# Altium footprint library DiodsFootprint.PcbLib: 4 footprints
Each footprint in its own frame and in the unit in brackets; x right, y up, seen from the top. Pads: shape width x height; smd on the part's side, far side on the other; paste and mask are expansions set on the pad; w line width, h text height; cw(c..) or ccw(c..) is an arc to the next point about the centre after c.
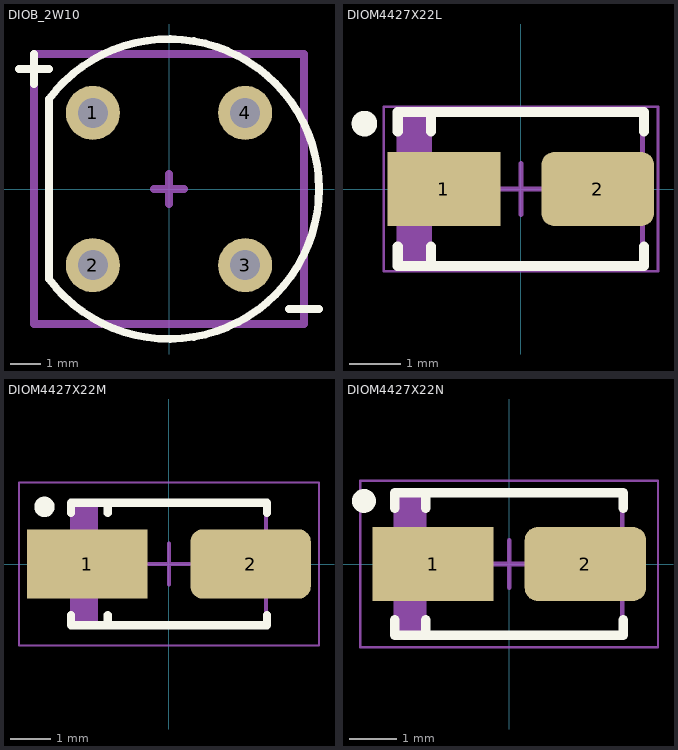
[diagram p0: the footprints below, top view; thin cyan lines are the x and y axes]

## DIOB_2W10 [mm] "2.0A BRIDGE RECTIFIER 700 Vrms"
pads (4):
  round 1.8 hole 1: 1(-2.54,2.54) 2(-2.54,-2.54) 3(2.54,-2.54) 4(2.54,2.54)
Top Overlay:
  lines w0.254: -5,4 -4,4 ; -4.5,3.5 -4.5,4.5 ; 4,-4 5,-4 ; -4,-3 ccw(c0,0) -4,3 -4,-3
Mechanical 15 (Mech15):
  lines w0.254: -0.5,0 0.5,0 ; 0,-0.5 0,0.5 ; -4.5,-4.5 4.5,-4.5 4.5,4.5 -4.5,4.5 -4.5,-4.5
3D body "User Library-Silicon Bridge Rectifiers 2W10.step": height 7.3, standoff -10.7, extent -4.5,-4.5 4.5,4.5

## DIOM4427X22L [mm] "Molded Diode, 2-Leads, Body 4,38x2,73mm, IPC High Density"
height 2.2
pads (2):
  rect 2.2x1.45 smd: 1(-1.5,0)
  rrect35% 2.2x1.45 smd: 2(1.5,0)
Top Overlay:
  circle w0.25: c-3.05,1.275 r0.125
  lines w0.2: -2.4,-1.125 -2.4,-1.5 2.4,-1.5 2.4,-1.125 ; -2.4,1.125 -2.4,1.5 2.4,1.5 2.4,1.125 ; -1.75,-1.5 -1.75,-1.125 ; -1.75,1.125 -1.75,1.5
Mechanical 13:
  rectangle: -2.375,-1.475 -1.736,1.475
  lines w0.1: -2.375,-1.475 2.375,-1.475 2.375,1.475 -2.375,1.475 -2.375,-1.475
Mechanical 15 (Mech15):
  lines w0.05: -2.675,-1.6 2.675,-1.6 2.675,1.6 -2.675,1.6 -2.675,-1.6
  lines w0.1: -0.5,0 0.5,0 ; 0,-0.5 0,0.5
3D body "DIOM4427X22L.step": height 2.2, standoff 0, extent -2.595,-1.475 2.595,1.475

## DIOM4427X22M [mm] "Molded Diode, 2-Leads, Body 4,38x2,73mm, IPC Low Density"
height 2.2
pads (2):
  rect 2.95x1.7 smd: 1(-2,0)
  rrect35% 2.95x1.7 smd: 2(2,0)
Top Overlay:
  circle w0.25: c-3.05,1.4 r0.125
  lines w0.2: -2.4,-1.25 -2.4,-1.5 2.4,-1.5 2.4,-1.25 ; -2.4,1.25 -2.4,1.5 2.4,1.5 2.4,1.25 ; -1.5,-1.5 -1.5,-1.25 ; -1.5,1.25 -1.5,1.5
Mechanical 13:
  rectangle: -2.375,-1.475 -1.736,1.475
  lines w0.1: -2.375,-1.475 -2.375,1.475 2.375,1.475 2.375,-1.475 -2.375,-1.475
Mechanical 15 (Mech15):
  lines w0.05: -3.675,-2 -3.675,2 3.675,2 3.675,-2 -3.675,-2
  lines w0.1: -0.5,0 0.5,0 ; 0,-0.5 0,0.5
3D body "DIOM4427X22M.step": height 2.2, standoff 0, extent -2.595,-1.475 2.595,1.475

## DIOM4427X22N [mm] "Molded Diode, 2-Leads, Body 4,38x2,73mm, IPC Medium Density"
height 2.2
pads (2):
  rect 2.55x1.55 smd: 1(-1.6,0)
  rrect35% 2.55x1.55 smd: 2(1.6,0)
Top Overlay:
  circle w0.25: c-3.05,1.325 r0.125
  lines w0.2: -2.4,-1.175 -2.4,-1.5 2.4,-1.5 2.4,-1.175 ; -2.4,1.175 -2.4,1.5 2.4,1.5 2.4,1.175 ; -1.75,-1.5 -1.75,-1.175 ; -1.75,1.175 -1.75,1.5
Mechanical 13:
  rectangle: -2.375,-1.475 -1.736,1.475
  lines w0.1: -2.375,-1.475 -2.375,1.475 2.375,1.475 2.375,-1.475 -2.375,-1.475
Mechanical 15 (Mech15):
  lines w0.05: -3.125,-1.75 -3.125,1.75 3.125,1.75 3.125,-1.75 -3.125,-1.75
  lines w0.1: -0.5,0 0.5,0 ; 0,-0.5 0,0.5
3D body "DIOM4427X22N.step": height 2.2, standoff 0, extent -2.595,-1.475 2.595,1.475